# Altium footprint library S7CAS-APP1.PcbLib: 18 footprints (part 2 of 2)
Each footprint in its own frame and in the unit in brackets; x right, y up, seen from the top. Pads: shape width x height; smd on the part's side, far side on the other; paste and mask are expansions set on the pad; w line width, h text height; cw(c..) or ccw(c..) is an arc to the next point about the centre after c.
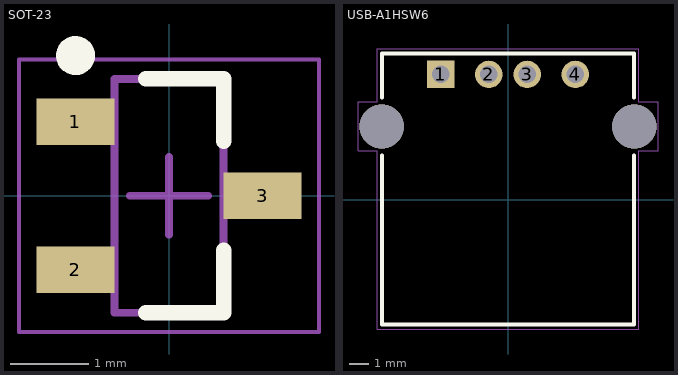
[diagram p1: the footprints below, top view; thin cyan lines are the x and y axes]

## SOT-23 [mm] "SOT23, 3-Leads, Body 2.90x2.45mm, Pitch 0.95mm, IPC Medium Density"
height 1.1
pads (3):
  rect 1x0.6 smd: 1(-1.2,0.95) 2(-1.2,-0.95) 3(1.2,0)
Top Overlay:
  circle w0.25: c-1.2,1.8 r0.125
  lines w0.2: -0.3,-1.5 0.7,-1.5 0.7,-0.7 ; -0.3,1.5 0.7,1.5 0.7,0.7
Mechanical 13:
  lines w0.1: -0.7,-1.5 -0.7,1.5 0.7,1.5 0.7,-1.5 -0.7,-1.5
Mechanical 15:
  lines w0.05: -1.925,-1.75 -1.925,1.75 1.925,1.75 1.925,-1.75 -1.925,-1.75
  lines w0.1: -0.5,0 0.5,0 ; 0,-0.5 0,0.5
3D body: height 1.1, standoff 0.05, extent -0.7,-1.5 0.7,1.5

## USB-A1HSW6 [mm] "USB CONN"
pads (6):
  rect 1.428x1.428 hole 0.92: 1(-3.5,6.51)
  round 1.428 hole 0.92: 2(-1,6.51) 3(1,6.51) 4(3.5,6.51)
  round 2.3 hole 2.3 unplated: ""(-6.57,3.8) ""(6.57,3.8)
Top Overlay:
  lines w0.2: -6.55,2.3 -6.55,-6.5 6.55,-6.5 6.55,2.3 ; -6.55,5.3 -6.55,7.6 6.55,7.6 6.55,5.3
Mechanical 15:
  lines w0.05: -7.8,2.55 -6.8,2.55 -6.8,-6.75 6.8,-6.75 6.8,2.55 7.8,2.55 7.8,5.1 6.8,5.1 6.8,7.85 -6.8,7.85 -6.8,5.1 -7.8,5.1 -7.8,2.55
3D body "USB-A1HSW6--3DModel-STEP-56544.STEP": height 7.37, standoff -3.43, extent -7.9,-6.477 7.9,7.623